# Altium schematic symbol library HFBR-2533Z.SchLib: 1 symbol
Pins are listed as number, name and electrical type; pins without a type are passive.

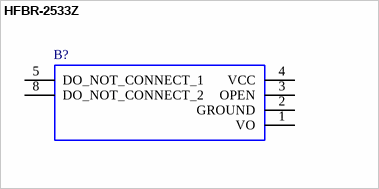
[diagram p0: symbol HFBR-2533Z]

## HFBR-2533Z
designator B?
Fibre Optic Transmitters, Receivers, Transceivers V-Link Ext Distnce R x Vert RoHS; Manufacturer_Name: Avago Technologies; Geometry.Height: 18.8mm; Manufacturer_Part_Number: HFBR-2533Z; Mouser Part Number: 630-HFBR-2533Z; Mouser Price/Stock: https://www.mouser.co.uk/ProductDetail/Broadcom-Avago/HFBR-2533Z?qs=jT9z6tsiFNk65rmydPk8Cg%3D%3D; Arrow Part Number: *; Arrow Price/Stock: *; Mouser Testing Part Number: *; Mouser Testing Price/Stock: *; Datasheet Link: https://docs.broadcom.com/docs/AV02-1501EN
footprint HFBR2533Z
pins: 1 VO, 2 GROUND, 3 OPEN, 4 VCC, 5 DO_NOT_CONNECT_1, 8 DO_NOT_CONNECT_2